# Altium schematic symbol library SM04B-SRSS-TB.SchLib: 2 symbols
Pins are listed as number, name and electrical type; pins without a type are passive.

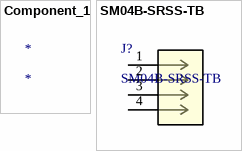
[diagram p0: symbols Component_1 to SM04B-SRSS-TB]

## Component_1
designator *

## SM04B-SRSS-TB
designator J?
No Description Available; Manufacturer_Name: JST; Copyright: Copyright (C) 2025 Ultra Librarian. All rights reserved.; Manufacturer_Part_Number: SM04B-SRSS-TB; RefDes: RefDes; Type: Type
footprint CONN_SM04B-SRSS-TB_JST
pins: 1, 2, 3, 4